# Altium footprint library SwitchingSupply.PcbLib: 9 footprints
Each footprint in its own frame and in the unit in brackets; x right, y up, seen from the top. Pads: shape width x height; smd on the part's side, far side on the other; paste and mask are expansions set on the pad; w line width, h text height; cw(c..) or ccw(c..) is an arc to the next point about the centre after c.
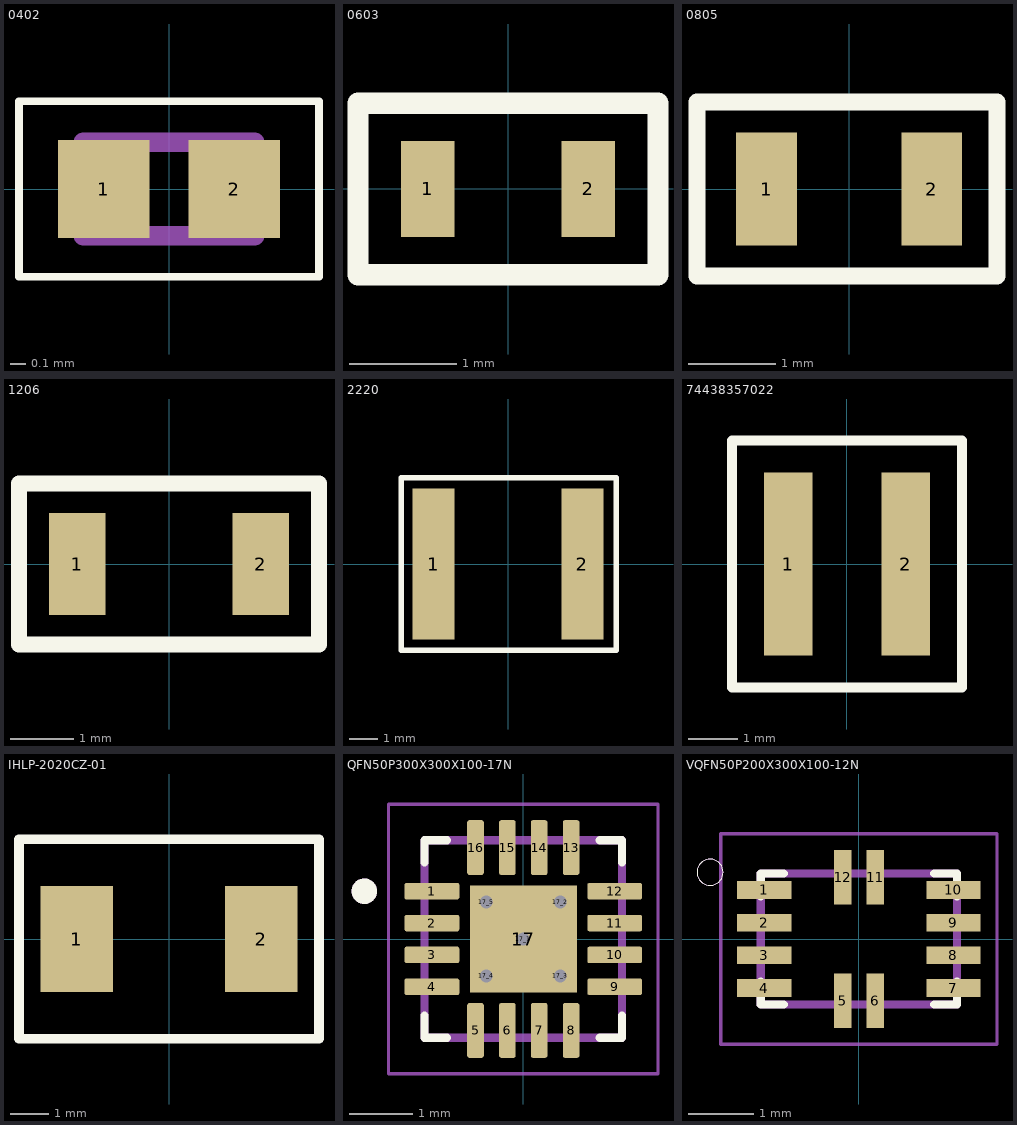
[diagram p0: the footprints below, top view; thin cyan lines are the x and y axes]

## 0402 [mm]
pads (2):
  rect 0.59x0.63 smd: 1(-0.42,0) 2(0.42,0)
Top Overlay:
  lines w0.05: -0.965,-0.565 -0.965,0.565 0.965,0.565 0.965,-0.565 -0.965,-0.565
Mechanical 4:
  lines w0.127: -0.55,-0.3 -0.55,0.3 ; -0.55,-0.3 0.55,-0.3 ; -0.55,-0.3 -0.55,0.3 ; -0.55,-0.3 0.55,-0.3 ; -0.55,0.3 0.55,0.3 ; -0.55,0.3 0.55,0.3 ; 0.55,-0.3 0.55,0.3 ; 0.55,-0.3 0.55,0.3
3D body "C0402.STEP": height 0.51, standoff 0.01, extent -0.5,-0.281 0.5,0.279

## 0603 [mm]
pads (2):
  rect 0.5x0.9 smd: 1(-0.75,0) 2(0.75,0)
Top Overlay:
  lines w0.2: -1.4,-0.8 1.4,-0.8 1.4,0.8 -1.4,0.8 -1.4,0 -1.4,-0.8
3D body "C0603.step": height 0.81, standoff 0.01, extent -0.8,-0.4 0.8,0.4

## 0805 [mm]
pads (2):
  rect 0.7x1.3 smd: 1(-0.95,0) 2(0.95,0)
Top Overlay:
  lines w0.2: -1.75,-1 1.7,-1 1.7,1 -1.75,1 -1.75,0 -1.75,-1
3D body "C0805.step": height 0.61, standoff 0.01, extent -1,-0.625 1,0.625

## 1206 [mil]
pads (2):
  rect 35x63 smd: 1(-57,0) 2(57,0)
Top Overlay:
  lines w10: -93,-50 -93,50 93,50 93,-50 -93,-50

## 2220 [mm]
pads (2):
  rect 1.5x5.4 smd: 1(-2.65,0) 2(2.65,0)
Top Overlay:
  lines w0.2: -3.81,-3.073 -3.81,3.073 3.861,3.073 3.861,-3.073 -3.81,-3.073

## 74438357022 [mm]
pads (2):
  rect 0.98x3.7 smd: 1(-1.185,0) 2(1.185,0)
Top Overlay:
  lines w0.2: -2.325,-2.5 2.325,-2.5 2.325,2.5 -2.325,2.5 -2.325,0 -2.325,-2.5
3D body "74438357022.STEP": height 3.11, standoff 0.01, extent -2.05,-2.024 2.05,2.075

## IHLP-2020CZ-01 [mil]
pads (2):
  rect 75x110 smd: 1(-95.5,0) 2(95.5,0)
Top Overlay:
  lines w10: -155,-103 155,-103 155,103 -155,103 -155,-103

## QFN50P300X300X100-17N [mm]
pads (22):
  rrect25% 0.86x0.26 smd mask+0: 1(-1.435,0.75) 2(-1.435,0.25) 3(-1.435,-0.25) 4(-1.435,-0.75) 9(1.435,-0.75) 10(1.435,-0.25) 11(1.435,0.25) 12(1.435,0.75)
  rrect25% 0.26x0.86 smd mask+0: 5(-0.75,-1.435) 6(-0.25,-1.435) 7(0.25,-1.435) 8(0.75,-1.435) 13(0.75,1.435) 14(0.25,1.435) 15(-0.25,1.435) 16(-0.75,1.435)
  rect 1.68x1.68 smd paste-2 mask+0: 17(0,0)
  round 0.3 hole 0.2: 17_1(0,0) 17_2(0.58,0.58) 17_3(0.58,-0.58) 17_4(-0.58,-0.58) 17_5(-0.58,0.58)
Top Overlay:
  circle w0.2: c-2.495,0.75 r0.1
  lines w0.127: -1.55,-1.2 -1.55,-1.55 -1.2,-1.55 ; -1.55,1.2 -1.55,1.55 -1.2,1.55 ; 1.2,-1.55 1.55,-1.55 1.55,-1.2 ; 1.2,1.55 1.55,1.55 1.55,1.2
Top Paste:
  region: 0.53,-0.53 -0.53,-0.53 -0.53,0.53 0.53,0.53
Mechanical 13:
  circle w0.2: c-2.495,0.75 r0.1
  lines w0.127: -1.55,-1.55 -1.55,1.55 1.55,1.55 1.55,-1.55 -1.55,-1.55
Mechanical 15:
  lines w0.05: -2.115,-2.115 -2.115,2.115 2.115,2.115 2.115,-2.115 -2.115,-2.115
3D body "RGT0016C.stp": height 1.01, standoff 0.01, extent -1.5,-1.5 1.5,1.5

## VQFN50P200X300X100-12N [mm]
pads (12):
  rect 0.83x0.27 smd: 1(-1.445,0.75) 2(-1.445,0.25) 3(-1.445,-0.25) 4(-1.445,-0.75) 7(1.445,-0.75) 8(1.445,-0.25) 9(1.445,0.25) 10(1.445,0.75)
  rect 0.27x0.83 smd: 5(-0.25,-0.945) 6(0.25,-0.945) 11(0.25,0.945) 12(-0.25,0.945)
Top Overlay:
  circle w0: c-2.275,1.02 r0.2
  lines w0.127: -1.5,-0.65 -1.5,-1 -1.15,-1 ; -1.5,0.65 -1.5,1 -1.15,1 ; 1.15,-1 1.5,-1 1.5,-0.65 ; 1.15,1 1.5,1 1.5,0.65
Mechanical 4:
  circle w0: c-2.275,1.02 r0.2
  circle w0: c-2.275,1.02 r0.2
  lines w0.127: -1.5,-1 -1.5,1 ; -1.5,-1 1.5,-1 ; -1.5,-1 -1.5,1 ; -1.5,-1 1.5,-1 ; -1.5,1 1.5,1 ; -1.5,1 1.5,1 ; 1.5,-1 1.5,1 ; 1.5,-1 1.5,1
Mechanical 16:
  lines w0.05: -2.11,-1.61 -2.11,1.61 2.11,1.61 2.11,-1.61 -2.11,-1.61